# EAGLE library part XBP9X-DMRS-001 (library ruark2)
General ISM under 1GHz Transceiver Module 902MHz ~ 928MHz Antenna Not Included, U.FL Surface Mount
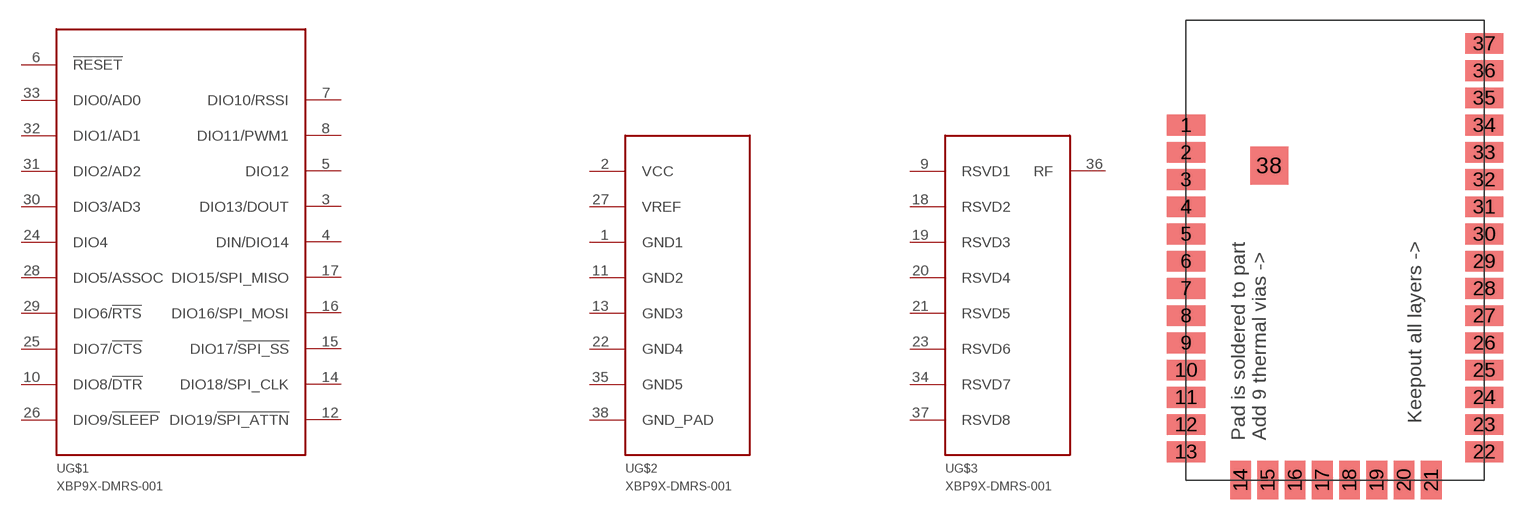
[diagram p103: symbol with the pads of SX900; footprint SX900]

Designator prefix U; gates G$1=XBP9X-DMRS-001_IO G$2=XBP9X-DMRS-001_PWR G$3=XBP9X-DMRS-001_RSVD

## XBP9X-DMRS-001 (PARTNO: 602-1889-ND)  [SX900]
1  G$2:GND1
2  G$2:VCC
3  G$1:DIO13/DOUT
4  G$1:DIN/DIO14
5  G$1:DIO12
6  G$1:!RESET
7  G$1:DIO10/RSSI
8  G$1:DIO11/PWM1
9  G$3:RSVD1
10  G$1:DIO8/!DTR
11  G$2:GND2
12  G$1:DIO19/!SPI_ATTN
13  G$2:GND3
14  G$1:DIO18/SPI_CLK
15  G$1:DIO17/!SPI_SS
16  G$1:DIO16/SPI_MOSI
17  G$1:DIO15/SPI_MISO
18  G$3:RSVD2
19  G$3:RSVD3
20  G$3:RSVD4
21  G$3:RSVD5
22  G$2:GND4
23  G$3:RSVD6
24  G$1:DIO4
25  G$1:DIO7/!CTS
26  G$1:DIO9/!SLEEP
27  G$2:VREF
28  G$1:DIO5/ASSOC
29  G$1:DIO6/!RTS
30  G$1:DIO3/AD3
31  G$1:DIO2/AD2
32  G$1:DIO1/AD1
33  G$1:DIO0/AD0
34  G$3:RSVD7
35  G$2:GND5
36  G$3:RF
37  G$3:RSVD8
38  G$2:GND_PAD

## Footprint SX900 (pad centres in mm)
smd 2.8 x 1.52: 1 -10.95,9.19; 2 -10.95,7.19; 3 -10.95,5.19; 4 -10.95,3.19; 5 -10.95,1.19; 6 -10.95,-0.81; 7 -10.95,-2.81; 8 -10.95,-4.81; 9 -10.95,-6.81; 10 -10.95,-8.81; 11 -10.95,-10.81; 12 -10.95,-12.81; 13 -10.95,-14.81; 22 10.95,-14.81; 23 10.95,-12.81; 24 10.95,-10.81; 25 10.95,-8.81; 26 10.95,-6.81; 27 10.95,-4.81; 28 10.95,-2.81; 29 10.95,-0.81; 30 10.95,1.19; 31 10.95,3.19; 32 10.95,5.19; 33 10.95,7.19; 34 10.95,9.19; 35 10.95,11.19; 36 10.95,13.19; 37 10.95,15.19
smd 1.52 x 2.8: 14 -6.95,-16.89; 15 -4.95,-16.89; 16 -2.95,-16.89; 17 -0.95,-16.89; 18 1.05,-16.89; 19 3.05,-16.89; 20 5.05,-16.89; 21 7.05,-16.89
smd 2.8 x 2.8: 38 -4.85,6.22